# Altium schematic symbol library Custom_Library.SchLib: 20 symbols
Pins are listed as number, name and electrical type; pins without a type are passive.

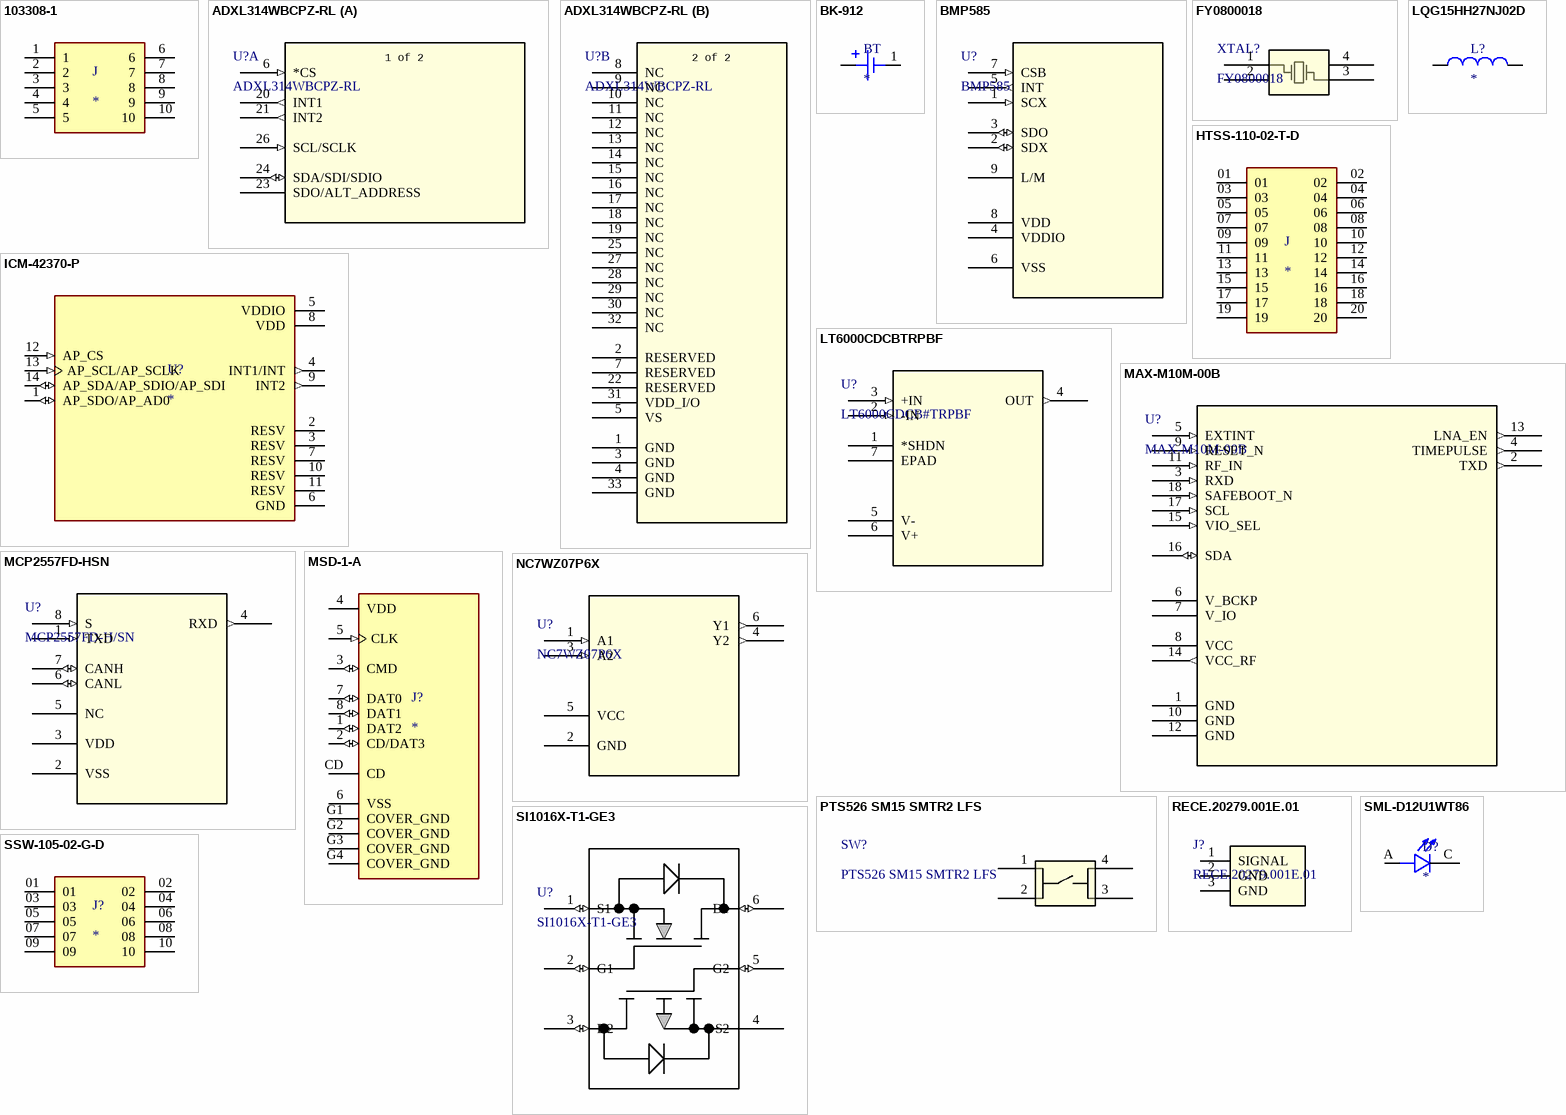
[diagram p0: symbols 103308-1 to SSW-105-02-G-D]

## 103308-1
designator J
Header;  Pin;  Vertical;  Copper Alloy;  Thermoplastic;  10;  0.100 x 0.100 in.;  1 A; MP: 103308-1; MF: TE Connectivity; Package: None; Value: *; Price: None; Availability: Unavailable; SnapEDA_Link: https://www.snapeda.com/parts/103308-1/TE%20Connectivity%20AMP%20Connectors/view-part/519501/?ref=snap
footprint TE_103308-1
pins: 1, 2, 3, 4, 5, 6, 7, 8, 9, 10

## ADXL314WBCPZ-RL
designator U?
Â±200 g Range, 3-Axis Digital Accelerometer; Manufacturer_Name: Analog Devices Inc; Copyright: Copyright (C) 2025 Ultra Librarian. All rights reserved.; Manufacturer_Part_Number: ADXL314WBCPZ-RL; RefDes: RefDes; Type: Type
footprint LFCSP32_CP-32-17_ADI
part A pins: 6 *CS (in), 20 INT1 (out), 21 INT2 (out), 23 SDO/ALT_ADDRESS, 24 SDA/SDI/SDIO (io), 26 SCL/SCLK (in)
part B pins: 1 GND (power), 2 RESERVED, 3 GND (power), 4 GND (power), 5 VS (power), 7 RESERVED, 8 NC, 9 NC, 10 NC, 11 NC, 12 NC, 13 NC, 14 NC, 15 NC, 16 NC, 17 NC, 18 NC, 19 NC, 22 RESERVED, 25 NC, 27 NC, 28 NC, 29 NC, 30 NC, 31 VDD_I/O (power), 32 NC, 33 GND (power)
part A text: 1 of 2
part B text: 2 of 2

## BK-912
designator BT
BATTERY RETAINER COIN 20MM SMD; MF: MPD; MP: BK-912; Value: *; Price: None; Package: None; SnapEDA_Link: https://www.snapeda.com/parts/BK-912/Memory%20Protection%20Devices/view-part/4219672/?ref=snap; Availability: Unavailable
footprint BAT_BK-912
pins: 1 NEG, S1 POS

## BMP585
designator U?
No Description Available; Manufacturer_Name: Bosch Sensortec; Type: Pressure Sensors, Transducers; Copyright: Copyright (C) 2025 Ultra Librarian. All rights reserved.; Manufacturer_Part_Number: BMP585; Digi-Key_Part_Number_1: 828-BMP585TR-ND; Digi-Key_Part_Number_2: 828-BMP585CT-ND; Digi-Key_Part_Number_3: 828-BMP585DKR-ND; RefDes: RefDes
footprint LGA9_BMP585_BOS
pins: 1 SCX (in), 2 SDX (io), 3 SDO (io), 4 VDDIO (power), 5 INT (out), 6 VSS (power), 7 CSB (in), 8 VDD (power), 9 L/M

## FY0800018
designator XTAL?
No Description Available; Manufacturer_Name: Diodes Inc; Copyright: Copyright (C) 2025 Ultra Librarian. All rights reserved.; Manufacturer_Part_Number: FY0800018; RefDes: RefDes; Type: Type
footprint 4xtal- 1-3xtal 2-4NC_DIO
pins: 1, 2, 3, 4

## HTSS-110-02-T-D
designator J
Connector Header Through Hole 20 position 0.100 (2.54mm); MF: Samtec; MP: HTSS-110-02-T-D; Package: None; Value: *; Availability: Unavailable; SnapEDA_Link: https://www.snapeda.com/parts/HTSS-110-02-T-D/Samtec/view-part/2878126/?ref=snap; Price: None
footprint SAMTEC_HTSS-110-02-T-D
pins: 01, 02, 03, 04, 05, 06, 07, 08, 09, 10, 11, 12, 13, 14, 15, 16, 17, 18, 19, 20

## ICM-42370-P
designator U?
Accelerometer X, Y, Z Axis 2g, 4g, 8g, 16g 14-LGA (2.5x3); MF: InvenSense; MP: ICM-42370-P; SnapEDA_Link: https://www.snapeda.com/parts/ICM-42370-P/InvenSense/view-part/?ref=snap; Package: None; Value: *; Check_prices: https://www.snapeda.com/parts/ICM-42370-P/InvenSense/view-part/?ref=eda
footprint PQFN50P250X300X81-14N
pins: 1 AP_SDO/AP_AD0 (io), 2 RESV, 3 RESV, 4 INT1/INT (out), 5 VDDIO (power), 6 GND (power), 7 RESV, 8 VDD (power), 9 INT2 (out), 10 RESV, 11 RESV, 12 AP_CS (in), 13 AP_SCL/AP_SCLK (in), 14 AP_SDA/AP_SDIO/AP_SDI (io)

## LQG15HH27NJ02D
designator L?
FIXED IND 27NH 350MA 460 MOHM; MP: LQG15HH27NJ02D; Package: None; Price: None; Value: *; Availability: Unavailable
footprint INDC1005X55N
pins: 1, 2

## LT6000CDCBTRPBF
designator U?, comment LT6000CDCB#TRPBF
Single 1.8V, 13ÂµA Precision Rail-to-Rail Op Amp; Manufacturer_Name: Analog Devices Inc; Copyright: Copyright (C) 2025 Ultra Librarian. All rights reserved.; Manufacturer_Part_Number: LT6000CDCB#TRPBF; Datasheet: https://www.analog.com/media/en/technical-documentation/data-sheets/600012fa.pdf; Digi-Key_Part_Number_1: 505-LT6000CDCB#TRPBFCT-ND; Digi-Key_Part_Number_2: 505-LT6000CDCB#TRPBFDKR-ND; Digi-Key_Part_Number_3: 505-LT6000CDCB#TRPBFTR-ND; Digi-Key_Part_Number_4: LT6000CDCB#TRPBF-ND; RefDes: RefDes; Type: Type
footprint DFN-6_DCB_LIT
pins: 1 *SHDN, 2 -IN (in), 3 +IN (in), 4 OUT (out), 5 V- (power), 6 V+ (power), 7 EPAD

## MAX-M10M-00B
designator U?
No Description Available; Manufacturer_Name: Ublox; Type: RF; Copyright: Copyright (C) 2025 Ultra Librarian. All rights reserved.; Manufacturer_Part_Number: MAX-M10M-00B; Digi-Key_Part_Number_1: 672-MAX-M10M-00BTR-ND; Digi-Key_Part_Number_2: 672-MAX-M10M-00BCT-ND; Digi-Key_Part_Number_3: 672-MAX-M10M-00BDKR-ND; RefDes: RefDes
footprint MOD18_MAX-M10M_UBL
pins: 1 GND (power), 2 TXD (out), 3 RXD (in), 4 TIMEPULSE (out), 5 EXTINT (in), 6 V_BCKP (power), 7 V_IO (power), 8 VCC (power), 9 RESET_N (in), 10 GND (power), 11 RF_IN (in), 12 GND (power), 13 LNA_EN (out), 14 VCC_RF (out), 15 VIO_SEL (in), 16 SDA (io), 17 SCL (in), 18 SAFEBOOT_N (in)

## MCP2557FD-HSN
designator U?, comment MCP2557FD-H/SN
No Description Available; Manufacturer_Name: Microchip; Copyright: Copyright (C) 2025 Ultra Librarian. All rights reserved.; Manufacturer_Part_Number: MCP2557FD-H/SN; Digi-Key_Part_Number_1: MCP2557FD-H/SN-ND; RefDes: RefDes; Type: Type
footprint SOIC8_SN_MCH
pins: 1 TXD (in), 2 VSS (power), 3 VDD (power), 4 RXD (out), 5 NC, 6 CANL (io), 7 CANH (io), 8 S (in)

## MSD-1-A
designator J?
Micro SD Card Connector, 9 Positions, Connector and Ejector, Push In, Auto Eject Out, Surface Mount, 1.8 mm Height Above Board, Gold Flash; MF: Same Sky; MP: MSD-1-A; SnapEDA_Link: https://www.snapeda.com/parts/MSD-1-A/Same+Sky/view-part/?ref=snap; Package: None; Value: *; Check_prices: https://www.snapeda.com/parts/MSD-1-A/Same+Sky/view-part/?ref=eda
footprint CUI_MSD-1-A
pins: 1 DAT2 (io), 2 CD/DAT3 (io), 3 CMD (io), 4 VDD (power), 5 CLK (in), 6 VSS (power), 7 DAT0 (io), 8 DAT1 (io), CD, G1 COVER_GND (power), G2 COVER_GND (power), G3 COVER_GND (power), G4 COVER_GND (power)

## NC7WZ07P6X
designator U?
Description; Manufacturer_Name: onsemi; Copyright: Copyright (C) 2025 Ultra Librarian. All rights reserved.; Manufacturer_Part_Number: NC7WZ07P6X; RefDes: RefDes; Type: Type
footprint SC-88SC70-6SOT-363_419B-02_ONS
pins: 1 A1 (in), 2 GND (power), 3 A2 (in), 4 Y2 (out), 5 VCC (power), 6 Y1 (out)

## PTS526 SM15 SMTR2 LFS
designator SW?
Description; Manufacturer_Name: C&K Components; Copyright: Copyright (C) 2025 Ultra Librarian. All rights reserved.; Manufacturer_Part_Number: PTS526 SM15 SMTR2 LFS; RefDes: RefDes; Type: Type
footprint SON4_PTS526 SM15 SMTR2 LFS_CNK
pins: 1, 2, 3, 4

## RECE.20279.001E.01
designator J?
No Description Available; Manufacturer_Name: Taoglas Limited; Type: Coaxial Connectors(RF) Assemblies; Copyright: Copyright (C) 2025 Ultra Librarian. All rights reserved.; Manufacturer_Part_Number: RECE.20279.001E.01; Digi-Key_Part_Number_1: 931-1107-1-ND; Digi-Key_Part_Number_2: 931-1107-6-ND; Digi-Key_Part_Number_3: 931-1107-2-ND; RefDes: RefDes
footprint CON3_RECE.20279.001E.01_TAL
pins: 1 SIGNAL, 2 GND, 3 GND

## SI1016X-T1-GE3
designator U?
COMPLEMENTARY N & P-CH 20-V (D-S) MOSFET; Manufacturer_Name: Vishay; Copyright: Copyright (C) 2025 Ultra Librarian. All rights reserved.; Manufacturer_Part_Number: SI1016X-T1-GE3; Datasheet: https://www.vishay.com/doc?71168; Digi-Key_Part_Number_1: SI1016X-T1-GE3TR-ND; Digi-Key_Part_Number_2: SI1016X-T1-GE3CT-ND; Digi-Key_Part_Number_3: SI1016X-T1-GE3DKR-ND; RefDes: RefDes; Type: Type
footprint SOT_X-T1-GE3_VIS
pins: 1 S1 (io), 2 G1 (io), 3 D2 (io), 4 S2, 5 G2 (io), 6 D1 (io)

## SML-D12U1WT86
designator D?
Red 620nm LED Indication - Discrete 2.2V 0603 (1608 Metric); MF: Rohm; MP: SML-D12U1WT86; Package: 0603 Rohm; Price: None; Check_prices: https://www.snapeda.com/parts/SML-D12U1WT86/Rohm/view-part/?ref=eda; Value: *; SnapEDA_Link: https://www.snapeda.com/parts/SML-D12U1WT86/Rohm/view-part/?ref=snap; Availability: In Stock; Purchase-URL: https://pricing.snapeda.com/search?q=SML-D12U1WT86&ref=eda
footprint LED_SML-D12U1WT86
pins: A, C

## SSW-105-02-G-D
designator J?
MP: SSW-105-02-G-D; MF: Samtec Inc.; Package: None; Availability: Unavailable; Value: *; Price: None
footprint SAMTEC_SSW-105-02-G-D
pins: 01, 02, 03, 04, 05, 06, 07, 08, 09, 10

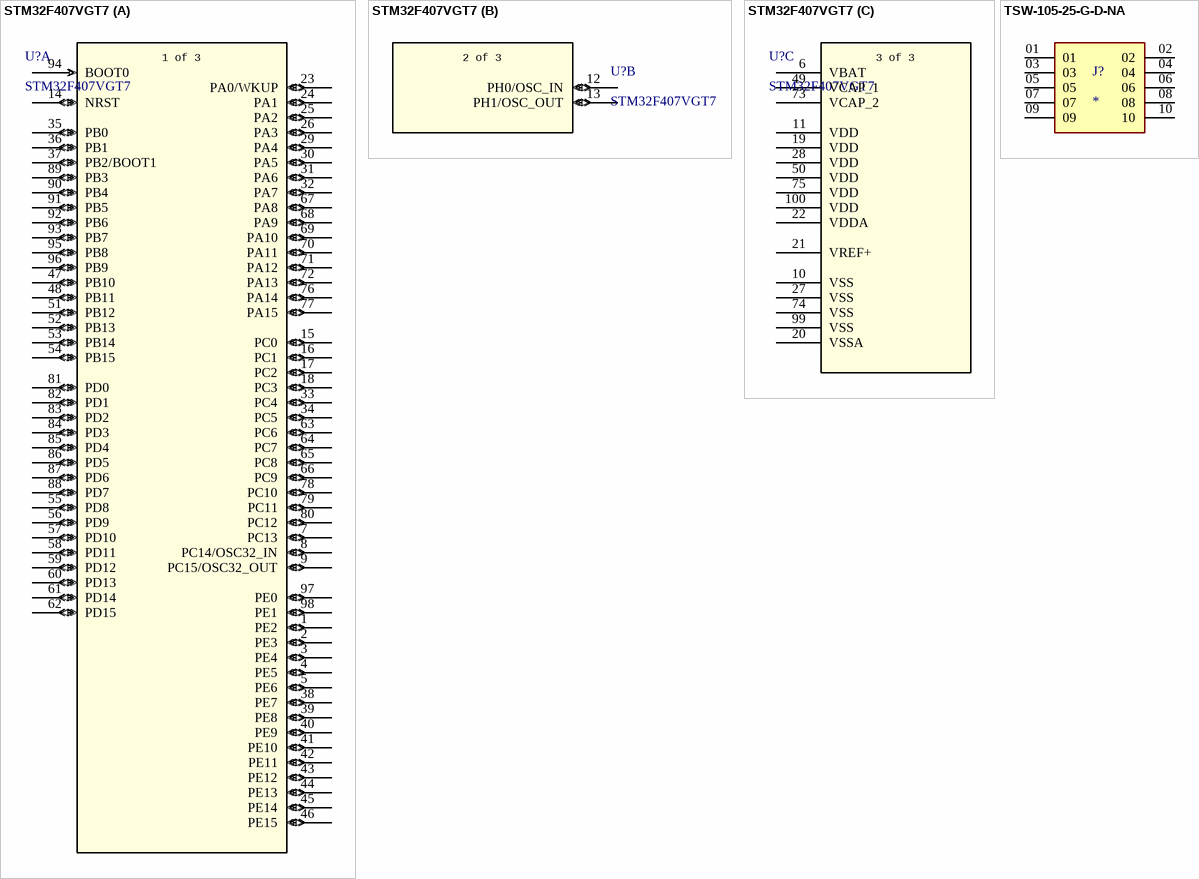
[diagram p1: symbols STM32F407VGT7 to TSW-105-25-G-D-NA]

## STM32F407VGT7
designator U?
High-performance foundation line, Arm Cortex-M4 core with DSP and FPU, 1 Mbyte of Flash memory, 168 MHz CPU, ART Accelerator, Ethernet, FSMC; Manufacturer_Name: STMicroelectronics; Copyright: Copyright (C) 2025 Ultra Librarian. All rights reserved.; Manufacturer_Part_Number: STM32F407VGT7; RefDes: RefDes; Type: Type
footprint LQFP100-14x14mm
part A pins: 1 PE2 (io), 2 PE3 (io), 3 PE4 (io), 4 PE5 (io), 5 PE6 (io), 7 PC13 (io), 8 PC14/OSC32_IN (io), 9 PC15/OSC32_OUT (io), 14 NRST (io), 15 PC0 (io), 16 PC1 (io), 17 PC2 (io), 18 PC3 (io), 23 PA0/WKUP (io), 24 PA1 (io), 25 PA2 (io), 26 PA3 (io), 29 PA4 (io), 30 PA5 (io), 31 PA6 (io), 32 PA7 (io), 33 PC4 (io), 34 PC5 (io), 35 PB0 (io), 36 PB1 (io), 37 PB2/BOOT1 (io), 38 PE7 (io), 39 PE8 (io), 40 PE9 (io), 41 PE10 (io), 42 PE11 (io), 43 PE12 (io), 44 PE13 (io), 45 PE14 (io), 46 PE15 (io), 47 PB10 (io), 48 PB11 (io), 51 PB12 (io), 52 PB13 (io), 53 PB14 (io), 54 PB15 (io), 55 PD8 (io), 56 PD9 (io), 57 PD10 (io), 58 PD11 (io), 59 PD12 (io), 60 PD13 (io), 61 PD14 (io), 62 PD15 (io), 63 PC6 (io), 64 PC7 (io), 65 PC8 (io), 66 PC9 (io), 67 PA8 (io), 68 PA9 (io), 69 PA10 (io), 70 PA11 (io), 71 PA12 (io), 72 PA13 (io), 76 PA14 (io), 77 PA15 (io), 78 PC10 (io), 79 PC11 (io), 80 PC12 (io), 81 PD0 (io), 82 PD1 (io), 83 PD2 (io), 84 PD3 (io), 85 PD4 (io), 86 PD5 (io), 87 PD6 (io), 88 PD7 (io), 89 PB3 (io), 90 PB4 (io), 91 PB5 (io), 92 PB6 (io), 93 PB7 (io), 94 BOOT0 (in), 95 PB8 (io), 96 PB9 (io), 97 PE0 (io), 98 PE1 (io)
part B pins: 12 PH0/OSC_IN (io), 13 PH1/OSC_OUT (io)
part C pins: 6 VBAT (power), 10 VSS (power), 11 VDD (power), 19 VDD (power), 20 VSSA (power), 21 VREF+ (power), 22 VDDA (power), 27 VSS (power), 28 VDD (power), 49 VCAP_1 (power), 50 VDD (power), 73 VCAP_2 (power), 74 VSS (power), 75 VDD (power), 99 VSS (power), 100 VDD (power)
part A text: 1 of 3
part B text: 2 of 3
part C text: 3 of 3

## TSW-105-25-G-D-NA
designator J?
MF: Samtec; MP: TSW-105-25-G-D-NA; Package: None; Price: None; Value: *; Availability: Unavailable
footprint SAMTEC_TSW-105-25-G-D-NA
pins: 01, 02, 03, 04, 05, 06, 07, 08, 09, 10